# EAGLE library part TPS61161 (library added_parts)
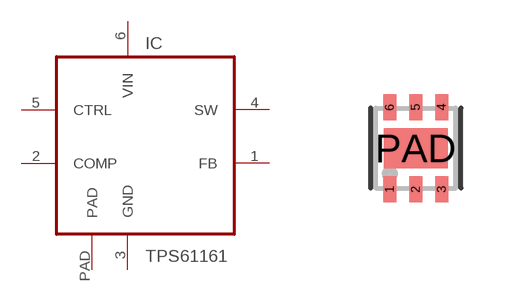
[diagram p18: symbol with the pads of WSON6; footprint WSON6]

Designator prefix IC

## TPS61161DRV  [WSON6]
1  FB  in
2  COMP  pas
3  GND  pwr
4  SW  oc
5  CTRL  in
6  VIN  pwr
PAD  PAD

## Footprint WSON6 (pad centres in mm)
smd 0.32 x 0.66: 1 -0.65,-1.025; 2 0,-1.025; 3 0.65,-1.025; 4 0.65,1.025; 5 0,1.025; 6 -0.65,1.025
smd 1.6 x 1: PAD 0,0